# Altium schematic symbol library GRM31C5C1H104JA01L.SchLib: 1 symbol
Pins are listed as number, name and electrical type; pins without a type are passive.

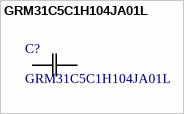
[diagram p0: symbol GRM31C5C1H104JA01L]

## GRM31C5C1H104JA01L
designator C?
Description; Manufacturer_Name: Murata; Copyright: Copyright (C) 2025 Ultra Librarian. All rights reserved.; Manufacturer_Part_Number: GRM31C5C1H104JA01L
footprint G-31_MUR
pins: 1, 2